# Altium schematic symbol library Schlib_MSTATOR.SchLib: 23 symbols
Pins are listed as number, name and electrical type; pins without a type are passive.

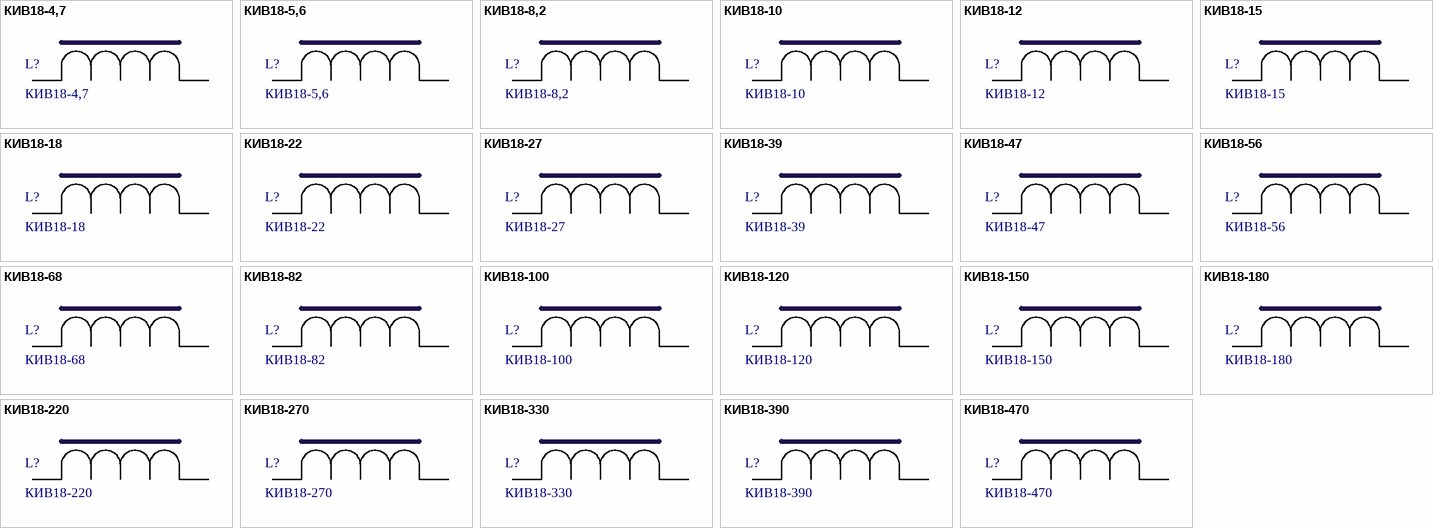
[diagram p0: symbols КИВ18-4,7 to КИВ18-470]

## КИВ18-4,7
designator L?
SMD Inductors; Manufacturer: ПАО  «МСТАТОР»; RDC: 0.45 Ohm; Q: 15; Irms  Max: 300 mA; Inductance @ 100 MHz: 4.7 nH; ТУ: КВШУ.670114.001 ТУ; Part Number: КИВ18-4,7; Package: 0603
footprint KIV18 (Filter 0603)
pins: 1, 2

## КИВ18-5,6
designator L?
SMD Inductors; Manufacturer: ПАО  «МСТАТОР»; RDC: 0.45 Ohm; Q: 15; Irms  Max: 300 mA; Inductance @ 100 MHz: 5.6 nH; ТУ: КВШУ.670114.001 ТУ; Part Number: КИВ18-5,6; Package: 0603
footprint KIV18 (Filter 0603)
pins: 1, 2

## КИВ18-8,2
designator L?
SMD Inductors; Manufacturer: ПАО  «МСТАТОР»; RDC: 0.45 Ohm; Q: 15; Irms  Max: 300 mA; Inductance @ 100 MHz: 8.2 nH; ТУ: КВШУ.670114.001 ТУ; Part Number: КИВ18-8,2; Package: 0603
footprint KIV18 (Filter 0603)
pins: 1, 2

## КИВ18-10
designator L?
SMD Inductors; Manufacturer: ПАО  «МСТАТОР»; RDC: 0.45 Ohm; Q: 15; Irms  Max: 300 mA; Inductance @ 100 MHz: 10 nH; ТУ: КВШУ.670114.001 ТУ; Part Number: КИВ18-10; Package: 0603
footprint KIV18 (Filter 0603)
pins: 1, 2

## КИВ18-12
designator L?
SMD Inductors; Manufacturer: ПАО  «МСТАТОР»; RDC: 0.45 Ohm; Q: 15; Irms  Max: 300 mA; Inductance @ 100 MHz: 12 nH; ТУ: КВШУ.670114.001 ТУ; Part Number: КИВ18-12; Package: 0603
footprint KIV18 (Filter 0603)
pins: 1, 2

## КИВ18-15
designator L?
SMD Inductors; Manufacturer: ПАО  «МСТАТОР»; RDC: 0.45 Ohm; Q: 15; Irms  Max: 300 mA; Inductance @ 100 MHz: 15 nH; ТУ: КВШУ.670114.001 ТУ; Part Number: КИВ18-15; Package: 0603
footprint KIV18 (Filter 0603)
pins: 1, 2

## КИВ18-18
designator L?
SMD Inductors; Manufacturer: ПАО  «МСТАТОР»; RDC: 0.45 Ohm; Q: 15; Irms  Max: 300 mA; Inductance @ 100 MHz: 18 nH; ТУ: КВШУ.670114.001 ТУ; Part Number: КИВ18-18; Package: 0603
footprint KIV18 (Filter 0603)
pins: 1, 2

## КИВ18-22
designator L?
SMD Inductors; Manufacturer: ПАО  «МСТАТОР»; RDC: 0.45 Ohm; Q: 15; Irms  Max: 300 mA; Inductance @ 100 MHz: 22 nH; ТУ: КВШУ.670114.001 ТУ; Part Number: КИВ18-22; Package: 0603
footprint KIV18 (Filter 0603)
pins: 1, 2

## КИВ18-27
designator L?
SMD Inductors; Manufacturer: ПАО  «МСТАТОР»; RDC: 0.70 Ohm; Q: 15; Irms  Max: 240 mA; Inductance @ 100 MHz: 27 nH; ТУ: КВШУ.670114.001 ТУ; Part Number: КИВ18-27; Package: 0603
footprint KIV18 (Filter 0603)
pins: 1, 2

## КИВ18-39
designator L?
SMD Inductors; Manufacturer: ПАО  «МСТАТОР»; RDC: 0.70 Ohm; Q: 15; Irms  Max: 240 mA; Inductance @ 100 MHz: 39 nH; ТУ: КВШУ.670114.001 ТУ; Part Number: КИВ18-39; Package: 0603
footprint KIV18 (Filter 0603)
pins: 1, 2

## КИВ18-47
designator L?
SMD Inductors; Manufacturer: ПАО  «МСТАТОР»; RDC: 0.70 Ohm; Q: 15; Irms  Max: 240 mA; Inductance @ 100 MHz: 47 nH; ТУ: КВШУ.670114.001 ТУ; Part Number: КИВ18-47; Package: 0603
footprint KIV18 (Filter 0603)
pins: 1, 2

## КИВ18-56
designator L?
SMD Inductors; Manufacturer: ПАО  «МСТАТОР»; RDC: 0.90 Ohm; Q: 15; Irms  Max: 210 mA; Inductance @ 100 MHz: 56 nH; ТУ: КВШУ.670114.001 ТУ; Part Number: КИВ18-56; Package: 0603
footprint KIV18 (Filter 0603)
pins: 1, 2

## КИВ18-68
designator L?
SMD Inductors; Manufacturer: ПАО  «МСТАТОР»; RDC: 1.00 Ohm; Q: 15; Irms  Max: 200 mA; Inductance @ 100 MHz: 68 nH; ТУ: КВШУ.670114.001 ТУ; Part Number: КИВ18-68; Package: 0603
footprint KIV18 (Filter 0603)
pins: 1, 2

## КИВ18-82
designator L?
SMD Inductors; Manufacturer: ПАО  «МСТАТОР»; RDC: 1.10 Ohm; Q: 15; Irms  Max: 190 mA; Inductance @ 100 MHz: 82 nH; ТУ: КВШУ.670114.001 ТУ; Part Number: КИВ18-82; Package: 0603
footprint KIV18 (Filter 0603)
pins: 1, 2

## КИВ18-100
designator L?
SMD Inductors; Manufacturer: ПАО  «МСТАТОР»; RDC: 1.20 Ohm; Q: 20; Irms  Max: 185 mA; Inductance @ 100 MHz: 100 nH; ТУ: КВШУ.670114.001 ТУ; Part Number: КИВ18-100; Package: 0603
footprint KIV18 (Filter 0603)
pins: 1, 2

## КИВ18-120
designator L?
SMD Inductors; Manufacturer: ПАО  «МСТАТОР»; RDC: 1.30 Ohm; Q: 20; Irms  Max: 175 mA; Inductance @ 100 MHz: 120 nH; ТУ: КВШУ.670114.001 ТУ; Part Number: КИВ18-120; Package: 0603
footprint KIV18 (Filter 0603)
pins: 1, 2

## КИВ18-150
designator L?
SMD Inductors; Manufacturer: ПАО  «МСТАТОР»; RDC: 1.60 Ohm; Q: 20; Irms  Max: 160 mA; Inductance @ 100 MHz: 150 nH; ТУ: КВШУ.670114.001 ТУ; Part Number: КИВ18-150; Package: 0603
footprint KIV18 (Filter 0603)
pins: 1, 2

## КИВ18-180
designator L?
SMD Inductors; Manufacturer: ПАО  «МСТАТОР»; RDC: 2.50 Ohm; Q: 20; Irms  Max: 130 mA; Inductance @ 100 MHz: 180 nH; ТУ: КВШУ.670114.001 ТУ; Part Number: КИВ18-180; Package: 0603
footprint KIV18 (Filter 0603)
pins: 1, 2

## КИВ18-220
designator L?
SMD Inductors; Manufacturer: ПАО  «МСТАТОР»; RDC: 2.80 Ohm; Q: 20; Irms  Max: 120 mA; Inductance @ 100 MHz: 220 nH; ТУ: КВШУ.670114.001 ТУ; Part Number: КИВ18-220; Package: 0603
footprint KIV18 (Filter 0603)
pins: 1, 2

## КИВ18-270
designator L?
SMD Inductors; Manufacturer: ПАО  «МСТАТОР»; RDC: 3.40 Ohm; Q: 20; Irms  Max: 110 mA; Inductance @ 100 MHz: 270 nH; ТУ: КВШУ.670114.001 ТУ; Part Number: КИВ18-270; Package: 0603
footprint KIV18 (Filter 0603)
pins: 1, 2

## КИВ18-330
designator L?
SMD Inductors; Manufacturer: ПАО  «МСТАТОР»; RDC: 5.50 Ohm; Q: 20; Irms  Max: 80 mA; Inductance @ 100 MHz: 330 nH; ТУ: КВШУ.670114.001 ТУ; Part Number: КИВ18-330; Package: 0603
footprint KIV18 (Filter 0603)
pins: 1, 2

## КИВ18-390
designator L?
SMD Inductors; Manufacturer: ПАО  «МСТАТОР»; RDC: 6.20 Ohm; Q: 20; Irms  Max: 75 mA; Inductance @ 100 MHz: 390 nH; ТУ: КВШУ.670114.001 ТУ; Part Number: КИВ18-390; Package: 0603
footprint KIV18 (Filter 0603)
pins: 1, 2

## КИВ18-470
designator L?
SMD Inductors; Manufacturer: ПАО  «МСТАТОР»; RDC: 7.00 Ohm; Q: 20; Irms  Max: 50 mA; Inductance @ 100 MHz: 470 nH; ТУ: КВШУ.670114.001 ТУ; Part Number: КИВ18-470; Package: 0603
footprint KIV18 (Filter 0603)
pins: 1, 2